# EAGLE library part 61003021121 (library Board-to-Board (rev18a))
WR-PHD 2.54mm Dual SMT Pin Header, 30 Pins =>Code : Con_BTB_PHD_2.54_2_61003021121 <http://katalog.we-online.de/media/images/eican/Con_BTB_PHD_2.54_2_6100xx21121_pf2.jpg> Details see: http://katalog.we-online.de/en/em/610_0xx_211_21 Created 2014-05-29, Karrer Zheng 2014 (C) Würth Elektronik
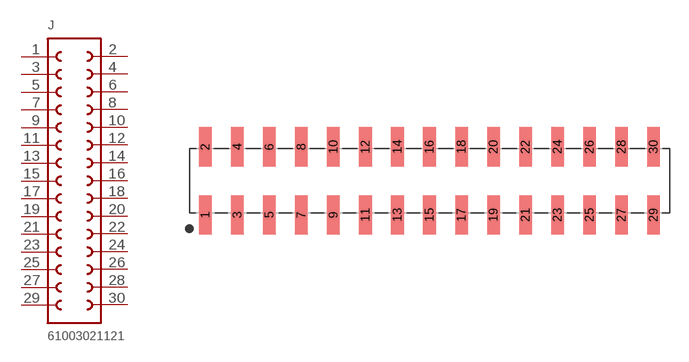
[diagram p84: symbol with the pads of 61003021121; footprint 61003021121]

Designator prefix J

## 61003021121  [61003021121]
1  1  pas
2  30  pas
3  2  pas
4  29  pas
5  3  pas
6  28  pas
7  4  pas
8  27  pas
9  5  pas
10  26  pas
11  6  pas
12  25  pas
13  7  pas
14  24  pas
15  8  pas
16  23  pas
17  9  pas
18  22  pas
19  10  pas
20  21  pas
21  11  pas
22  20  pas
23  12  pas
24  19  pas
25  13  pas
26  18  pas
27  14  pas
28  17  pas
29  15  pas
30  16  pas

## Footprint 61003021121 (pad centres in mm)
WR-PHD 2.54mm Dual SMT Pin Header, 30 Pins
smd 1 x 3.1: 1 -17.78,-2.7; 2 -17.78,2.7; 3 -15.24,-2.7; 4 -15.24,2.7; 5 -12.7,-2.7; 6 -12.7,2.7; 7 -10.16,-2.7; 8 -10.16,2.7; 9 -7.62,-2.7; 10 -7.62,2.7; 11 -5.08,-2.7; 12 -5.08,2.7; 13 -2.54,-2.7; 14 -2.54,2.7; 15 0,-2.7; 16 0,2.7; 17 2.54,-2.7; 18 2.54,2.7; 19 5.08,-2.7; 20 5.08,2.7; 21 7.62,-2.7; 22 7.62,2.7; 23 10.16,-2.7; 24 10.16,2.7; 25 12.7,-2.7; 26 12.7,2.7; 27 15.24,-2.7; 28 15.24,2.7; 29 17.78,-2.7; 30 17.78,2.7